# EAGLE library part INA296* (library Soil Power Sensor)
-5-V to 110-V, bidirectional, 1.1-MHz 5-V/µs ultraprecise current sense amplifier
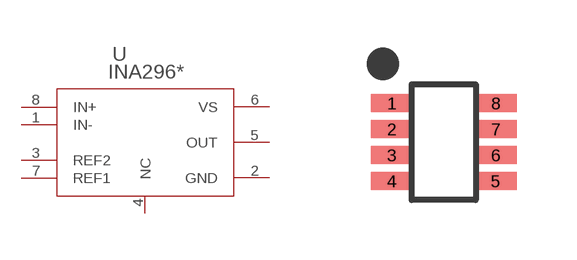
[diagram p3: symbol with the pads of SOT65P280X110-8N; footprint SOT65P280X110-8N]

Designator prefix U

## INA296A1 (AUTHOR: John Madden <jmadden173@pm.me>; DATE_CREATED: 2023-04-05; DATE_MODIFIED: 2023-04-05; GAIN: 10; MFC: TI; MPN: INA296A1IDDFR; QTY: 1; REF: https://www.ti.com/product/INA296A), INA296A2 (AUTHOR: John Madden <jmadden173@pm.me>; DATE_CREATED: 2023-04-05; DATE_MODIFIED: 2023-04-05; GAIN: 20; MFC: TI; MPN: INA296A2IDDFR; QTY: 1; REF: https://www.ti.com/product/INA296A), INA296A3 (AUTHOR: John Madden <jmadden173@pm.me>; DATE_CREATED: 2023-04-05; DATE_MODIFIED: 2023-04-05; GAIN: 50; MFC: TI; MPN: INA296A3IDDFR; QTY: 1; REF: https://www.ti.com/product/INA296A), INA296A4 (AUTHOR: John Madden <jmadden173@pm.me>; DATE_CREATED: 2023-04-05; DATE_MODIFIED: 2023-04-05; GAIN: 100; MFC: TI; MPN: INA296A4IDDFR; QTY: 1; REF: https://www.ti.com/product/INA296A), INA296A5 (AUTHOR: John Madden <jmadden173@pm.me>; DATE_CREATED: 2023-04-05; DATE_MODIFIED: 2023-04-05; GAIN: 200; MFC: TI; MPN: INA296A5IDDFR; QTY: 1; REF: https://www.ti.com/product/INA296A), INA296B1 (AUTHOR: John Madden <jmadden173@pm.me>; DATE_CREATED: 2023-04-05; DATE_MODIFIED: 2023-04-05; GAIN: 10; MFC: TI; MPN: INA296B1IDDFR; QTY: 1; REF: https://www.ti.com/product/INA296B), INA296B2 (AUTHOR: John Madden <jmadden173@pm.me>; DATE_CREATED: 2023-04-05; DATE_MODIFIED: 2023-04-05; GAIN: 20; MFC: TI; MPN: INA296B2IDDFR; QTY: 1; REF: https://www.ti.com/product/INA296B), INA296B3 (AUTHOR: John Madden <jmadden173@pm.me>; DATE_CREATED: 2023-04-05; DATE_MODIFIED: 2023-04-05; GAIN: 50; MFC: TI; MPN: INA296B3IDDFR; QTY: 1; REF: https://www.ti.com/product/INA296B), INA296B4 (AUTHOR: John Madden <jmadden173@pm.me>; DATE_CREATED: 2023-04-05; DATE_MODIFIED: 2023-04-05; GAIN: 100; MFC: TI; MPN: INA296B4IDDFR; QTY: 1; REF: https://www.ti.com/product/INA296B), INA296B5 (AUTHOR: John Madden <jmadden173@pm.me>; DATE_CREATED: 2023-04-05; DATE_MODIFIED: 2023-04-05; GAIN: 200; MFC: TI; MPN: INA296B5IDDFR; QTY: 1; REF: https://www.ti.com/product/INA296B)  [SOT65P280X110-8N]
1  IN-  in
2  GND  pwr
3  REF2
4  NC  nc
5  OUT  out
6  VS  pwr
7  REF1
8  IN+  in

## Footprint SOT65P280X110-8N (pad centres in mm)
smd 1.05 x 0.45: 1 -1.3,0.975; 2 -1.3,0.325; 3 -1.3,-0.325; 4 -1.3,-0.975; 5 1.3,-0.975; 6 1.3,-0.325; 7 1.3,0.325; 8 1.3,0.975